# Altium footprint library Mechanical.PcbLib: 10 footprints
Each footprint in its own frame and in the unit in brackets; x right, y up, seen from the top. Pads: shape width x height; smd on the part's side, far side on the other; paste and mask are expansions set on the pad; w line width, h text height; cw(c..) or ccw(c..) is an arc to the next point about the centre after c.
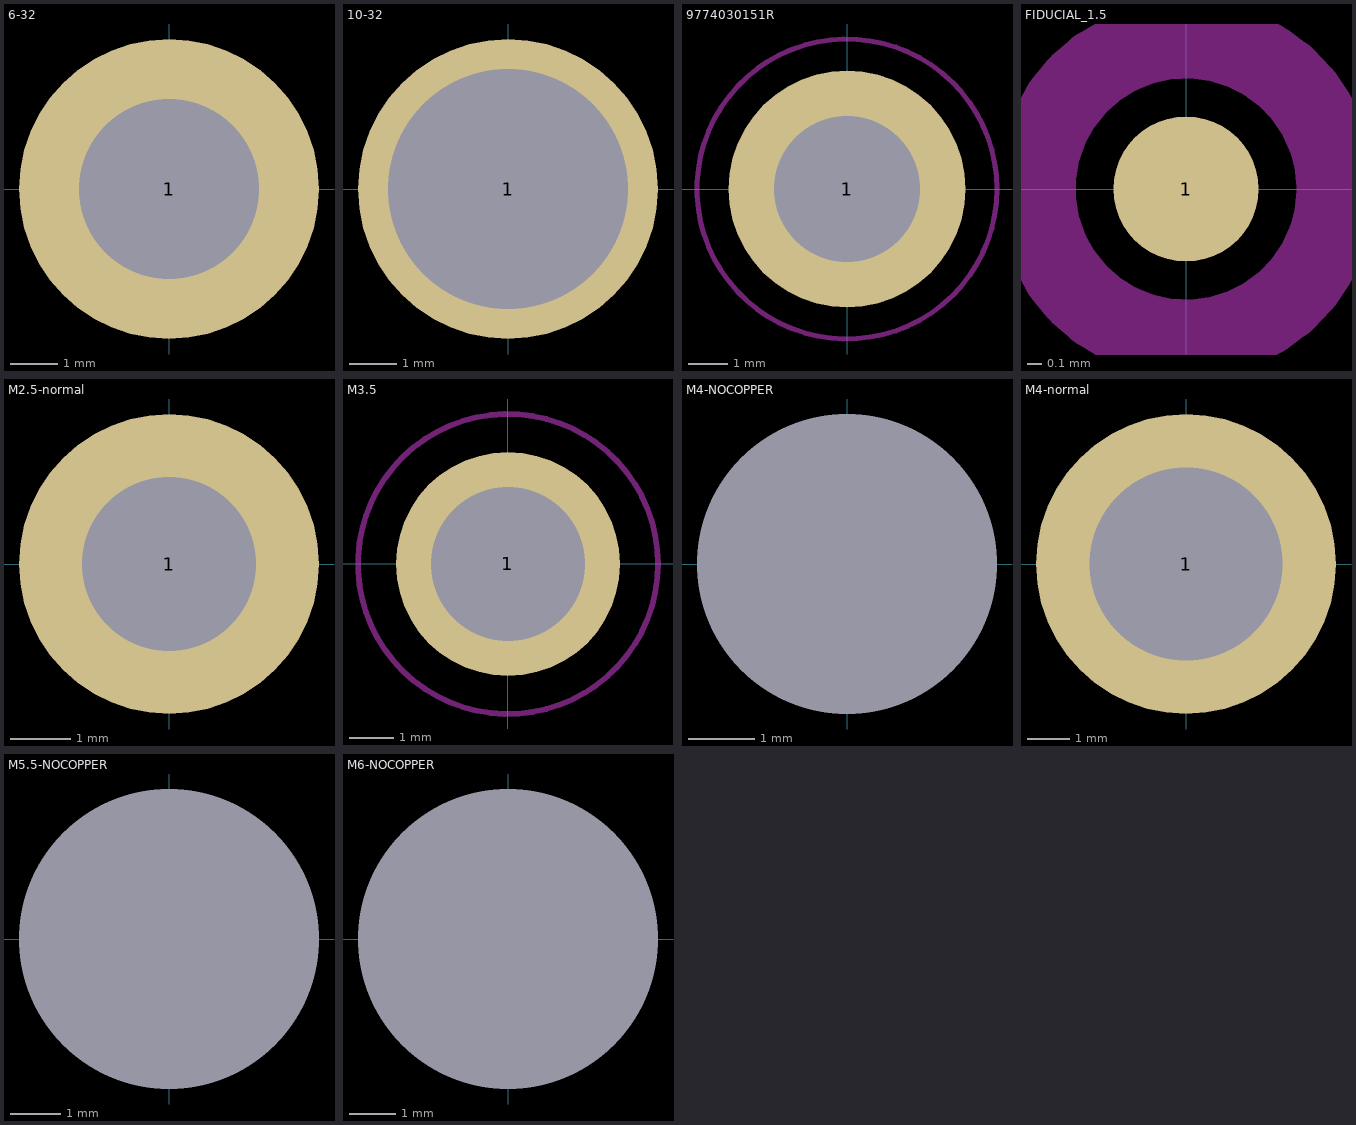
[diagram p0: the footprints below, top view; thin cyan lines are the x and y axes]

## 6-32 [mm]
pads (1):
  round 6.35 hole 3.81: 1(0,0)

## 10-32 [mm]
pads (1):
  round 6.35 hole 5.08: 1(0,0)

## 9774030151R [mm]
pads (1):
  round 6 hole 3.7 paste-99: 1(0,0)
Top Paste:
  region: 0.4,-2.948 0.4,-1.832 0.529,-1.799 0.78,-1.705 1.014,-1.577 1.228,-1.417 1.417,-1.228 1.577,-1.014 1.705,-0.78 1.799,-0.529 1.832,-0.4 2.948,-0.4 2.915,-0.64 2.773,-1.104 2.558,-1.538 2.275,-1.932 1.932,-2.275 1.538,-2.558 1.104,-2.773 0.64,-2.915
  region: 1.832,0.4 1.799,0.529 1.705,0.78 1.577,1.014 1.417,1.228 1.228,1.417 1.014,1.577 0.78,1.705 0.529,1.799 0.4,1.832 0.4,2.948 0.64,2.915 1.104,2.773 1.538,2.558 1.932,2.275 2.275,1.932 2.558,1.538 2.773,1.104 2.915,0.64 2.948,0.4
  region: -2.948,0.4 -1.832,0.4 -1.799,0.529 -1.705,0.78 -1.577,1.014 -1.417,1.228 -1.228,1.417 -1.014,1.577 -0.78,1.705 -0.529,1.799 -0.4,1.832 -0.4,2.948 -0.64,2.915 -1.104,2.773 -1.538,2.558 -1.932,2.275 -2.275,1.932 -2.558,1.538 -2.773,1.104 -2.915,0.64
  region: -0.4,-1.832 -0.529,-1.799 -0.78,-1.705 -1.014,-1.577 -1.228,-1.417 -1.417,-1.228 -1.577,-1.014 -1.705,-0.78 -1.799,-0.529 -1.832,-0.4 -2.948,-0.4 -2.915,-0.64 -2.773,-1.104 -2.558,-1.538 -2.275,-1.932 -1.932,-2.275 -1.538,-2.558 -1.104,-2.773 -0.64,-2.915 -0.4,-2.948
Keep-Out Layer:
  circle w0.127: c0,0 r3.8
3D body "STEP-9774030151R-rev1.stp": height 3, standoff -1.4, extent -2.55,-2.559 2.55,2.54

## FIDUCIAL_1.5 [mil]
pads (1):
  round 40 smd paste-60 mask+30: 1(0,0)
Top Layer keep-out:
  circle w21.65: c0,0 r41.34

## M2.5-normal [mm]
pads (1):
  round 5 hole 2.9: 1(0,0)

## M3.5 [mm]
pads (1):
  round 5.08 hole 3.5: 1(0,0)
Keep-Out Layer:
  circle w0.127: c0,0 r3.4

## M4-NOCOPPER [mm]
pads (1):
  round 0 hole 4.5 mask-99: ""(0,0)

## M4-normal [mm]
pads (1):
  round 7 hole 4.5: 1(0,0)

## M5.5-NOCOPPER [mm]
pads (1):
  round 0 hole 6 mask-99: ""(0,0)

## M6-NOCOPPER [mm]
pads (1):
  round 0 hole 6.5 mask-99: ""(0,0)